# Altium footprint library lib-con.PcbLib: 51 footprints (part 2 of 4)
Each footprint in its own frame and in the unit in brackets; x right, y up, seen from the top. Pads: shape width x height; smd on the part's side, far side on the other; paste and mask are expansions set on the pad; w line width, h text height; cw(c..) or ccw(c..) is an arc to the next point about the centre after c.
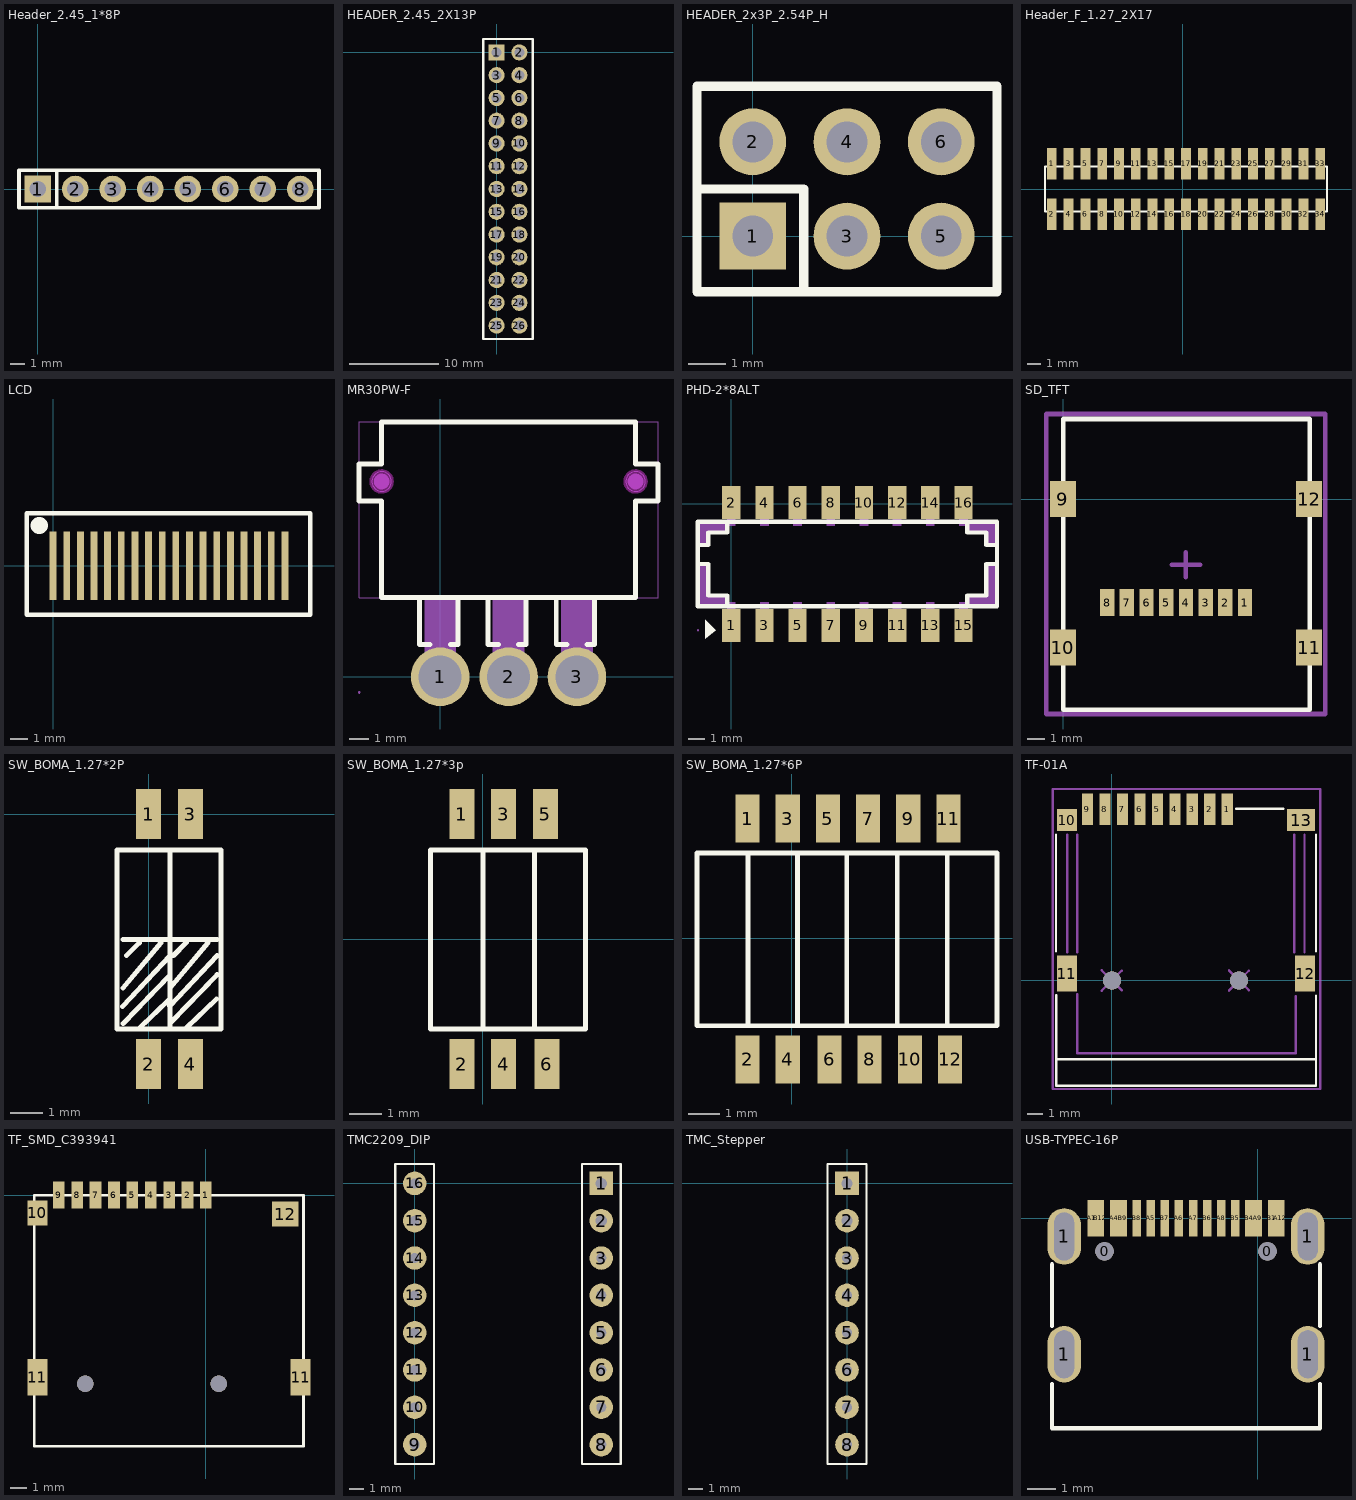
[diagram p1: the footprints below, top view; thin cyan lines are the x and y axes]

## Header_2.45_1*8P [mm]
pads (8):
  rect 1.8x1.8 hole 1.1 paste+0 mask+0.05: 1(0,0)
  round 1.8 hole 1.1 paste+0 mask+0.05: 2(2.54,0) 3(5.08,0) 4(7.62,0) 5(10.16,0) 6(12.7,0) 7(15.24,0) 8(17.78,0)
Top Overlay:
  lines w0.254: 1.294,-1.27 1.294,1.27 ; 1.294,1.27 -1.27,1.27 -1.27,-1.27 19.05,-1.27 19.05,1.27 1.294,1.27

## HEADER_2.45_2X13P [mm]
pads (26):
  rect 1.8x1.8 hole 1.1 paste+0 mask+0.05: 1(0,0)
  round 1.8 hole 1.1 paste+0 mask+0.05: 2(2.54,0) 3(0,-2.54) 4(2.54,-2.54) 5(0,-5.08) 6(2.54,-5.08) 7(0,-7.62) 8(2.54,-7.62) 9(0,-10.16) 10(2.54,-10.16) 11(0,-12.7) 12(2.54,-12.7) 13(0,-15.24) 14(2.54,-15.24) 15(0,-17.78) 16(2.54,-17.78) 17(0,-20.32) 18(2.54,-20.32) 19(0,-22.86) 20(2.54,-22.86) 21(0,-25.4) 22(2.54,-25.4) 23(0,-27.94) 24(2.54,-27.94) 25(0,-30.48) 26(2.54,-30.48)
Top Overlay:
  lines w0.254: -1.5,-31.98 -1.5,1.5 4.04,1.5 4.04,-31.98 -1.5,-31.98

## HEADER_2x3P_2.54P_H [mm]
pads (6):
  rect 1.8x1.8 hole 1.1 paste+0 mask+0.05: 1(0,0)
  round 1.8 hole 1.1 paste+0 mask+0.05: 2(0,2.54) 3(2.54,0) 4(2.54,2.54) 5(5.08,0) 6(5.08,2.54)
Top Overlay:
  lines w0.254: -1.5,0 -1.5,-1.5 ; -1.5,1.27 1.372,1.27 1.372,-1.5 ; -1.5,2.54 -1.5,4.04 ; 0,-1.5 -1.5,-1.5 ; 0,4.04 -1.5,4.04 ; 5.08,-1.5 6.58,-1.5 ; 5.08,4.04 6.58,4.04 ; 6.58,0 6.58,-1.5 ; 6.58,2.54 6.58,4.04 ; -1.5,-1.5 6.58,-1.5 ; -1.5,-1.5 -1.5,4.04 ; -1.5,4.04 6.58,4.04 ; 6.58,-1.5 6.58,4.04
3D body "3D_123_f.step": height 8.6, standoff -2.9, extent -1.27,-1.292 6.35,3.788

## Header_F_1.27_2X17 [mm]
pads (34):
  rect 0.74x2.4 smd: 1(-9.931,1.905) 2(-9.931,-1.905) 3(-8.661,1.905) 4(-8.661,-1.905) 5(-7.391,1.905) 6(-7.391,-1.905) 7(-6.121,1.905) 8(-6.121,-1.905) 9(-4.851,1.905) 10(-4.851,-1.905) 11(-3.581,1.905) 12(-3.581,-1.905) 13(-2.311,1.905) 14(-2.311,-1.905) 15(-1.041,1.905) 16(-1.041,-1.905) 17(0.229,1.905) 18(0.229,-1.905) 19(1.499,1.905) 20(1.499,-1.905) 21(2.769,1.905) 22(2.769,-1.905) 23(4.039,1.905) 24(4.039,-1.905) 25(5.309,1.905) 26(5.309,-1.905) 27(6.579,1.905) 28(6.579,-1.905) 29(7.849,1.905) 30(7.849,-1.905) 31(9.119,1.905) 32(9.119,-1.905) 33(10.389,1.905) 34(10.389,-1.905)
Top Overlay:
  lines w0.152: -10.439,-1.7 10.897,-1.7 10.897,1.7 -10.439,1.7 -10.439,-1.7

## LCD [mm]
pads (18):
  rect 0.4x4 smd: 1(0,0) 2(0.8,0) 3(1.6,0) 4(2.4,0) 5(3.2,0) 6(4,0) 7(4.8,0) 8(5.6,0) 9(6.4,0) 10(7.2,0) 11(8,0) 12(8.8,0) 13(9.6,0) 14(10.4,0) 15(11.2,0) 16(12,0) 17(12.8,0) 18(13.6,0)
Top Overlay:
  lines w0.254: -1.549,-2.87 15.088,-2.87 15.088,3.073 -1.549,3.073 -1.549,-2.87
  lines w1: -0.838,2.362 -0.787,2.362

## MR30PW-F [mm]
pads (3):
  round 3 hole 2.2: 1(0,0) 2(3.5,0) 3(7,0)
Top Overlay:
  lines w0.254: -1.06,4.05 -1.06,1.65 -0.518,1.65 ; 0.518,1.65 0.9,1.65 0.9,4.05 ; 2.44,4.05 2.44,1.65 2.982,1.65 ; 4.018,1.65 4.4,1.65 4.4,4.05 ; 5.94,4.05 5.94,1.65 6.482,1.65 ; 7.518,1.65 7.9,1.65 7.9,4.05 ; 10,12.95 10,10.9 11.15,10.9 11.15,9 10,9 10,4.05 -3,4.05 -3,9 -4.15,9 -4.15,10.9 -3,10.9 -3,13.05 10,13.05
Keep-Out Layer:
  board cut-out: -2.5,10 -2.502,10.098 -2.579,10.28 -2.719,10.418 -2.901,10.493 -3.099,10.493 -3.281,10.418 -3.421,10.28 -3.499,10.099 -3.5,10 -3.499,9.901 -3.421,9.72 -3.281,9.582 -3.099,9.507 -2.902,9.507 -2.719,9.582 -2.579,9.72 -2.502,9.901 -2.5,10
  board cut-out: 10.5,10 10.498,10.098 10.421,10.28 10.281,10.418 10.098,10.493 9.901,10.493 9.719,10.418 9.579,10.28 9.501,10.099 9.5,10 9.501,9.901 9.579,9.72 9.719,9.582 9.901,9.507 10.098,9.507 10.281,9.582 10.421,9.72 10.498,9.901 10.5,10
Mechanical 1:
  circle w0.025: c-3,10 r0.5
  circle w0.025: c10,10 r0.5
Mechanical 6:
  circle w0.4: c10,10 r0.2
  circle w0.4: c-3,10 r0.2
Mechanical 15:
  region: -4.09,-0.8 -4.09,-0.776 -4.125,-0.74 -4.175,-0.74 -4.21,-0.775 -4.21,-0.8 -4.21,-0.825 -4.175,-0.86 -4.125,-0.86 -4.09,-0.825 -4.09,-0.8
  region: 7.8,0 7.8,0.105 7.745,0.309 7.64,0.491 7.491,0.64 7.309,0.746 7.105,0.8 6.895,0.8 6.691,0.746 6.509,0.64 6.36,0.491 6.254,0.309 6.2,0.105 6.2,0 6.2,-0.105 6.254,-0.309 6.36,-0.491 6.509,-0.64 6.691,-0.746 6.894,-0.8 7.105,-0.8 7.309,-0.746 7.491,-0.64 7.64,-0.491 7.745,-0.309 7.8,-0.105 7.8,0
  region: 4.3,0 4.3,0.105 4.245,0.309 4.14,0.491 3.991,0.64 3.809,0.746 3.605,0.8 3.394,0.8 3.191,0.746 3.008,0.64 2.86,0.491 2.754,0.309 2.7,0.105 2.7,0 2.7,-0.105 2.754,-0.309 2.859,-0.491 3.008,-0.64 3.191,-0.746 3.394,-0.8 3.605,-0.8 3.808,-0.746 3.991,-0.64 4.14,-0.491 4.245,-0.309 4.3,-0.105 4.3,0
  region: 0.8,0 0.8,0.105 0.745,0.309 0.64,0.491 0.491,0.64 0.309,0.746 0.105,0.8 -0.105,0.8 -0.309,0.746 -0.491,0.64 -0.64,0.491 -0.746,0.309 -0.8,0.105 -0.8,0 -0.8,-0.105 -0.746,-0.309 -0.64,-0.491 -0.491,-0.64 -0.309,-0.746 -0.106,-0.8 0.105,-0.8 0.309,-0.746 0.491,-0.64 0.64,-0.491 0.745,-0.309 0.8,-0.105 0.8,0
  region: -0.8,-0.8 0.8,-0.8 0.8,4.1 -0.8,4.1
  region: 2.7,-0.8 4.3,-0.8 4.3,4.1 2.7,4.1
  region: 6.2,-0.8 7.8,-0.8 7.8,4.1 6.2,4.1
  lines w0.051: -4.15,4.05 -4.15,13.05 11.15,13.05 11.15,4.05 -4.15,4.05
Multi-Layer keep-out:
  circle w0.254: c-3,10 r0.5
  circle w0.254: c10,10 r0.5

## PHD-2*8ALT [mm]
pads (16):
  rect 1.1x2 smd paste+0 mask+0.05: 1(0,-7.324) 2(0,0.076) 3(2,-7.324) 4(2,0.076) 5(4,-7.324) 6(4,0.076) 7(6,-7.324) 8(6,0.076) 9(8,-7.324) 10(8,0.076) 11(10,-7.324) 12(10,0.076) 13(12,-7.324) 14(12,0.076) 15(14,-7.324) 16(14,0.076)
Top Overlay:
  region: -1.572,-7.116 -1.572,-6.989 -0.937,-7.624 -1.572,-8.132 -1.572,-8.005
  lines w0.254: -2.017,-3.625 -1.382,-3.625 -1.382,-5.529 -0.239,-5.529 -0.239,-6.164 ; -2.017,-2.48 -1.382,-2.48 -1.382,-1.718 -0.239,-1.718 -0.239,-1.083 ; 14.222,-6.162 14.222,-5.527 15.365,-5.527 15.365,-3.624 16,-3.624 ; 14.222,-1.083 14.222,-1.718 15.365,-1.718 15.365,-2.48 16,-2.48 ; -2.017,-6.164 16.017,-6.164 16.017,-1.084 -0.747,-1.084 -2.017,-1.084 -2.017,-6.164
Mechanical 6:
  region: -2.017,-3.625 -1.382,-3.625 -1.382,-5.529 -0.239,-5.529 -0.239,-6.164 -2.017,-6.164
  region: -0.239,-1.083 -0.239,-1.718 -1.382,-1.718 -1.382,-2.48 -2.017,-2.48 -2.017,-1.084
  region: 14.222,-1.083 14.222,-1.718 15.365,-1.718 15.365,-2.48 16,-2.48 16,-1.101 16.017,-1.084
  region: 16,-3.624 15.365,-3.624 15.365,-5.527 14.222,-5.527 14.222,-6.162 16.015,-6.162 16.017,-6.164
Mechanical 15:
  region: -0.25,-5.924 0.25,-5.924 0.25,-7.624 -0.25,-7.624
  region: -0.25,0.376 0.25,0.376 0.25,-1.324 -0.25,-1.324
  region: 1.75,-5.924 2.25,-5.924 2.25,-7.624 1.75,-7.624
  region: 1.75,0.376 2.25,0.376 2.25,-1.324 1.75,-1.324
  region: 3.75,-5.924 4.25,-5.924 4.25,-7.624 3.75,-7.624
  region: 3.75,0.376 4.25,0.376 4.25,-1.324 3.75,-1.324
  region: 5.75,-5.924 6.25,-5.924 6.25,-7.624 5.75,-7.624
  region: 5.75,0.376 6.25,0.376 6.25,-1.324 5.75,-1.324
  region: 7.75,-5.924 8.25,-5.924 8.25,-7.624 7.75,-7.624
  region: 7.75,0.376 8.25,0.376 8.25,-1.324 7.75,-1.324
  region: 9.75,-5.924 10.25,-5.924 10.25,-7.624 9.75,-7.624
  region: 9.75,0.376 10.25,0.376 10.25,-1.324 9.75,-1.324
  region: 11.75,-5.924 12.25,-5.924 12.25,-7.624 11.75,-7.624
  region: 11.75,0.376 12.25,0.376 12.25,-1.324 11.75,-1.324
  region: 13.75,-5.924 14.25,-5.924 14.25,-7.624 13.75,-7.624
  region: 13.75,0.376 14.25,0.376 14.25,-1.324 13.75,-1.324
  region: -1.94,-7.624 -1.94,-7.599 -1.975,-7.564 -2.025,-7.564 -2.06,-7.599 -2.06,-7.624 -2.06,-7.649 -2.025,-7.684 -1.975,-7.684 -1.94,-7.649 -1.94,-7.624
  lines w0.051: -2,-6.124 16,-6.124 16,-1.124 -2,-1.124 -2,-6.124

## SD_TFT [mm]
pads (12):
  rect 0.8x1.5 smd: 1(10.158,-5.791) 2(9.058,-5.791) 3(7.958,-5.791) 4(6.858,-5.791) 5(5.758,-5.791) 6(4.658,-5.791) 7(3.558,-5.791) 8(2.458,-5.791)
  rect 1.45x2 smd: 9(-0.012,-0.003) 10(-0.012,-8.3) 11(13.738,-8.3) 12(13.738,-0.003)
Top Overlay:
  lines w0.254: 0,-11.786 0,0 0,4.47 13.775,4.47 13.775,-11.786 0,-11.786
Mechanical 15:
  lines w0.254: 6.071,-3.683 7.671,-3.683 ; 6.858,-4.369 6.858,-2.972 ; -0.94,-12.014 -0.94,4.75 14.656,4.75 14.656,-12.014 -0.94,-12.014

## SW_BOMA_1.27*2P [mil]
pads (4):
  rect 30x60 smd: 1(0,0) 2(0,-300) 3(50,0) 4(50,-300)
Top Overlay:
  lines w6: -31.11,-230.87 25.86,-170.05 ; -31,-209 15.11,-154.55 ; -31,-150.5 82,-150.5 ; -30.74,-251.55 25.86,-193.05 ; -26.64,-170.05 -11.14,-154.55 ; -11.1,-257.09 25.36,-222.05 ; 25.33,-230.61 82.3,-169.8 ; 25.44,-208.75 71.55,-154.3 ; 25.5,-258 25.5,-43 ; 25.7,-251.3 82.3,-192.8 ; 29.8,-169.8 45.3,-154.3 ; 45.34,-256.84 81.8,-221.8 ; -38,-258 -38,-43 87,-43 87,-258 -38,-258

## SW_BOMA_1.27*3p [mil]
pads (6):
  rect 30x60 smd: 1(-25.11,150.16) 2(-25.11,-149.84) 3(24.89,150.16) 4(24.89,-149.84) 5(74.89,150.16) 6(76.89,-149.84)
Top Overlay:
  lines w6: 0.39,-107.84 0.39,107.16 ; 61.89,-107.84 61.89,107.16 ; 61.89,-107.84 -63.11,-107.84 -63.11,107.16 61.89,107.16 ; 61.89,-107.84 123.39,-107.84 123.39,107.16 61.89,107.16

## SW_BOMA_1.27*6P [mil]
pads (12):
  rect 30x60 smd: 1(-55.11,149.16) 2(-55.11,-150.84) 3(-5.11,149.16) 4(-5.11,-150.84) 5(44.89,149.16) 6(46.89,-150.84) 7(94.89,149.16) 8(96.89,-150.84) 9(144.89,149.16) 10(146.89,-150.84) 11(194.89,149.16) 12(196.89,-150.84)
Top Overlay:
  lines w6: -54.61,-108.84 -54.61,106.16 ; 69.79,-108.84 131.29,-108.84 131.29,106.16 69.79,106.16 ; 131.89,-108.84 193.39,-108.84 193.39,106.16 131.89,106.16 ; 193.89,-108.84 255.39,-108.84 255.39,106.16 193.89,106.16 ; 6.89,-108.84 68.39,-108.84 68.39,106.16 6.89,106.16 ; 6.89,-108.84 -118.11,-108.84 -118.11,106.16 6.89,106.16 ; 6.89,-108.84 6.89,106.16

## TF-01A [mil]
pads (13):
  rect 27.56x78.7 smd: 1(285.6,424.2) 2(242.34,424.2) 3(199.07,424.2) 4(155.81,424.2) 5(112.55,424.2) 6(69.29,424.2) 7(26.02,424.2) 8(-17.24,424.2) 9(-60.5,424.2)
  rect 50x55 smd: 10(-111.5,397.2)
  rect 50x90 smd: 11(-111.5,17.2) 12(478.5,17.2)
  rect 70x55 smd: 13(468.5,397.2)
via 314.96,0 diameter 45 hole 45
via 0,0 diameter 45 hole 45
Top Overlay:
  lines w6: -138.5,72.2 -138.5,361.2 ; -137.5,-36.7 -137.5,-260.8 505.5,-260.8 505.5,-194.8 ; -136.5,-194.8 -85.5,-194.8 505.5,-194.8 ; 307.5,425.2 424.5,425.2 ; 505.5,-37.32 505.5,-194.8 ; 505.5,72.2 505.5,361.2
Mechanical 15:
  lines w6: -111,70 -111,361 ; -86,-34 -86,-180 455,-180 455,-39 ; -86,70 -86,361 ; -25,-25 24,24 ; -25,25 24,-24 ; 289.96,-25 338.96,24 ; 289.96,25 338.96,-24 ; 452,70 452,361 ; 477,70 477,361 ; -146.5,-268.8 515.5,-268.8 515.5,474.2 -146.5,474.2 -146.5,-268.8

## TF_SMD_C393941 [mm]
pads (13):
  rect 0.7x1.6 smd: 1(0,0) 2(-1.1,0) 3(-2.2,0) 4(-3.3,0) 5(-4.4,0) 6(-5.5,0) 7(-6.6,0) 8(-7.7,0) 9(-8.8,0)
  rect 1.2x1.5 smd: 10(-10.084,-1.067)
  rect 1.2x2.2 smd: 11(-10.084,-10.897) 11(5.669,-10.897)
  rect 1.6x1.5 smd: 12(4.75,-1.143)
via 0.777,-11.293 diameter 1 hole 1
via -7.223,-11.293 diameter 1 hole 1
Top Overlay:
  lines w0.152: -10.262,-15.037 5.842,-15.037 5.842,0 -9.296,0 -10.262,0 -10.262,-15.037
3D body "User Library-Micro_SD_Socket_Push-push.STEP": height 1.85, standoff -0.6, extent -10.287,-15.02 5.813,-0.017

## TMC2209_DIP [mm]
pads (16):
  rect 1.6x1.6 hole 0.762: 1(12.7,0)
  round 1.6 hole 0.762: 2(12.7,-2.54)
  round 1.6 hole 0.65: 3(12.7,-5.08) 4(12.7,-7.62) 5(12.7,-10.16) 6(12.7,-12.7) 7(12.7,-15.24) 8(12.7,-17.78) 9(0,-17.78) 10(0,-15.24) 11(0,-12.7) 12(0,-10.16) 13(0,-7.62) 14(0,-5.08) 15(0,-2.54) 16(0,0)
Top Overlay:
  lines w0.152: -1.321,-19.101 -1.321,1.321 1.321,1.321 1.321,-19.101 -1.321,-19.101 ; 11.379,-19.101 11.379,1.321 14.021,1.321 14.021,-19.101 11.379,-19.101
3D body "3D_123123_F.step": height 8.6, standoff -2.9, extent -1.273,-19.068 1.267,1.262
3D body "3D_123123_F.step": height 8.6, standoff -2.9, extent 11.427,-19.068 13.967,1.262

## TMC_Stepper [mm]
pads (8):
  rect 1.6x1.6 hole 0.762: 1(0,0)
  round 1.6 hole 0.762: 2(0,-2.54)
  round 1.6 hole 0.65: 3(0,-5.08) 4(0,-7.62) 5(0,-10.16) 6(0,-12.7) 7(0,-15.24) 8(0,-17.78)
Top Overlay:
  lines w0.152: -1.321,-19.101 -1.321,1.321 1.321,1.321 1.321,-19.101 -1.321,-19.101
3D body "3D_123123_F.step": height 8.6, standoff -2.9, extent -1.273,-19.068 1.267,1.262

## USB-TYPEC-16P [mm] "C709357"
pads (22):
  round 0.65 hole 0.65: 0(-5.44,-1.18) 0(0.34,-1.18)
  oval 1.2x2 hole 1.7 slot 0.7 at 0 deg: 1(-6.87,-4.83) 1(-6.87,-0.65) 1(1.77,-4.83) 1(1.77,-0.65)
  rect 0.3x1.3 smd: A1(-5.9,0) A4(-5.1,0) A5(-3.8,0) A6(-2.8,0) A7(-2.3,0) A8(-1.3,0) A9(0,0) A12(0.8,0) B1(0.5,0) B4(-0.3,0) B5(-0.8,0) B6(-1.8,0) B7(-3.3,0) B8(-4.3,0) B9(-4.8,0) B12(-5.6,0)
Top Overlay:
  lines w0.152: -7.302,-5.882 -7.302,-7.452 2.202,-7.452 2.202,-5.882 ; -7.302,-3.825 -7.302,-1.641 ; 2.202,-3.825 2.202,-1.641
3D body "User Library-USB Type C Port (SMD Type).STEP": height 3.3, standoff -0.9, extent -6.992,-7.404 1.948,0.496